# Altium footprint library Power Devices.PcbLib: 48 footprints (part 3 of 3)
Each footprint in its own frame and in the unit in brackets; x right, y up, seen from the top. Pads: shape width x height; smd on the part's side, far side on the other; paste and mask are expansions set on the pad; w line width, h text height; cw(c..) or ccw(c..) is an arc to the next point about the centre after c.
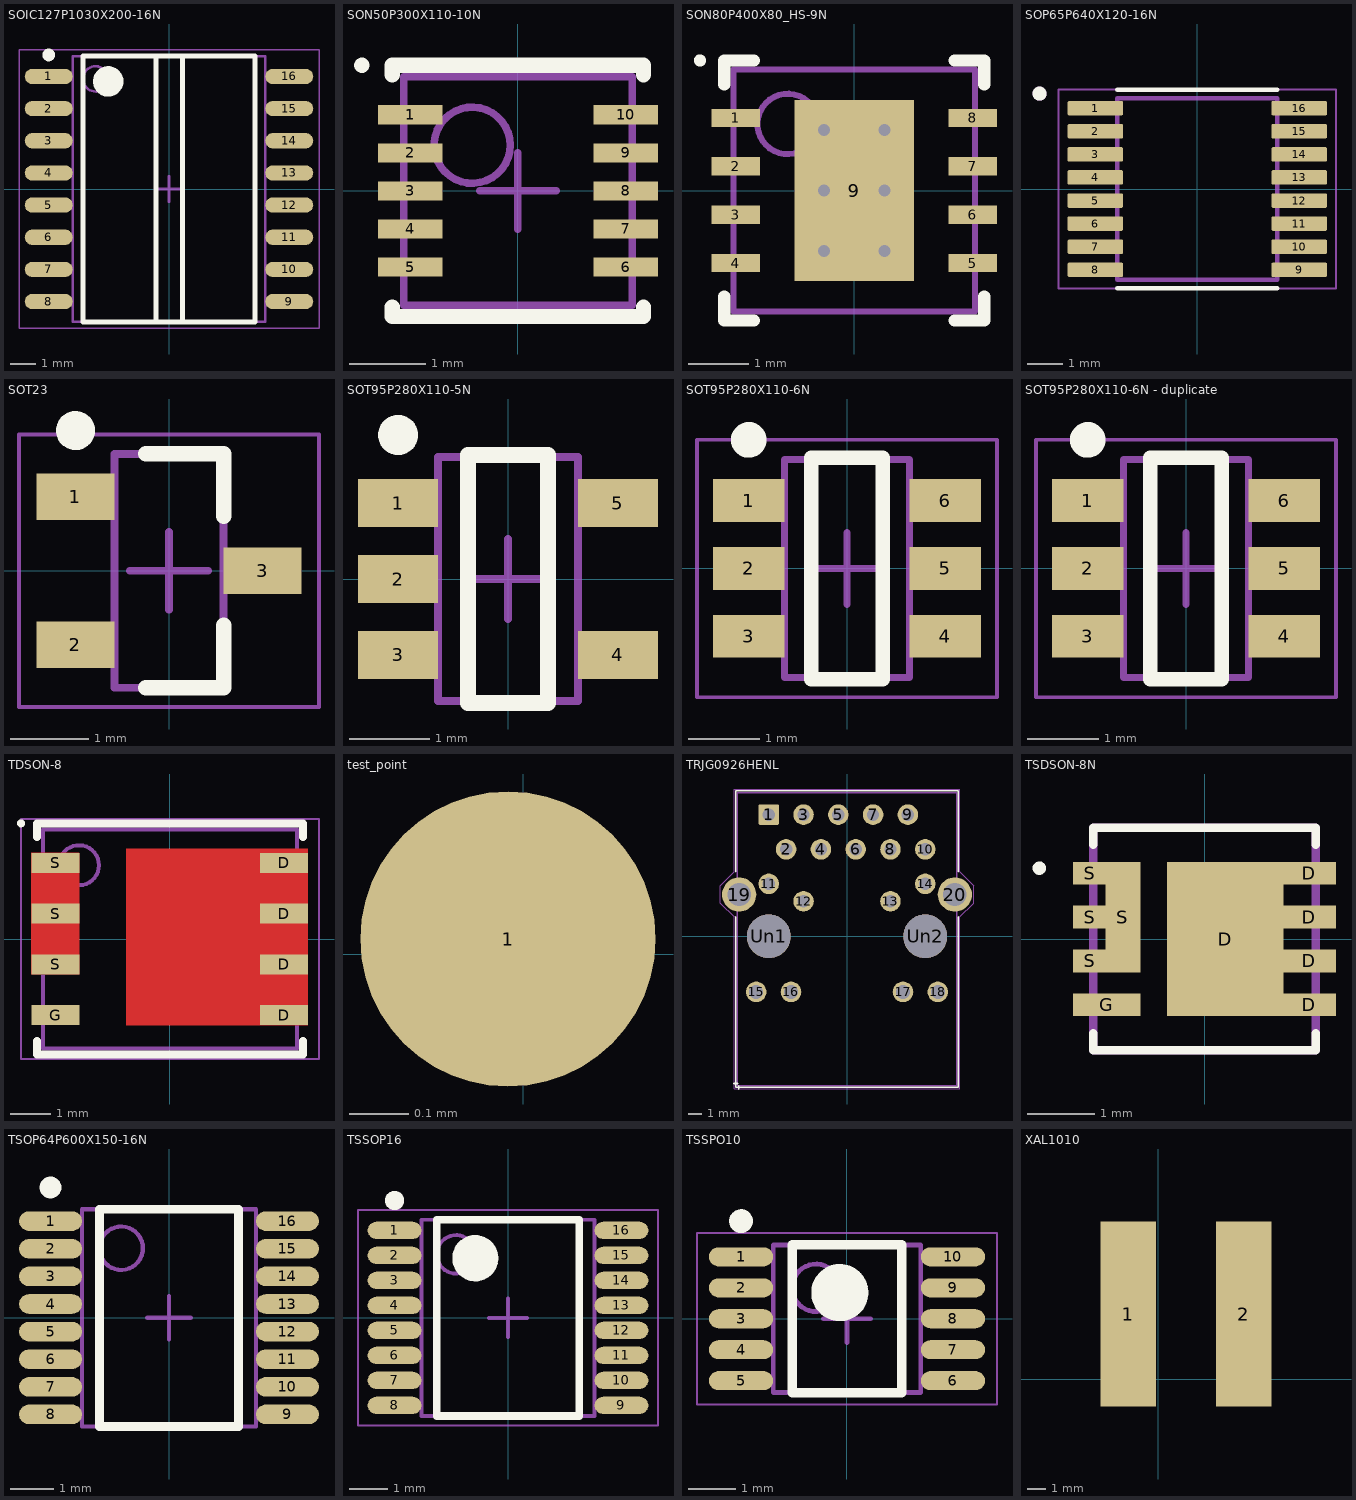
[diagram p2: the footprints below, top view; thin cyan lines are the x and y axes]

## SOIC127P1030X200-16N [mm] "SOIC, 16-Leads, Body 10.30x7.50mm, Pitch 1.27mm, IPC Medium Density"
height 2
pads (16):
  oval 1.9x0.6 smd: 1(-4.75,4.445) 2(-4.75,3.175) 3(-4.75,1.905) 4(-4.75,0.635) 5(-4.75,-0.635) 6(-4.75,-1.905) 7(-4.75,-3.175) 8(-4.75,-4.445) 9(4.75,-4.445) 10(4.75,-3.175) 11(4.75,-1.905) 12(4.75,-0.635) 13(4.75,0.635) 14(4.75,1.905) 15(4.75,3.175) 16(4.75,4.445)
Top Overlay:
  circle w0.6: c-2.4,4.25 r0.3
  circle w0.25: c-4.75,5.295 r0.125
  lines w0.2: -0.813,5.25 -0.508,5.25 -0.508,-5.258 ; 0.432,5.25 0.533,5.25 0.533,-5.25 ; -3.4,-5.25 3.4,-5.25 3.4,5.25 -3.4,5.25 -3.4,-5.25
Mechanical 13:
  circle w0.1: c-2.9,4.35 r0.5
  lines w0.1: -3.8,-5.25 3.8,-5.25 3.8,5.25 -3.8,5.25 -3.8,-5.25
Mechanical 15:
  lines w0.05: -5.925,-5.5 5.925,-5.5 5.925,5.5 -5.925,5.5 -5.925,-5.5
  lines w0.1: -0.5,0 0.5,0 ; 0,-0.5 0,0.5
3D body "SOIC127P1030X200-16N.step": height 2, standoff 0, extent -5.15,-5.25 5.15,5.25

## SON50P300X110-10N [mm] "SON, 10-Leads, Body 3.00x3.00mm, Pitch 0.50mm, IPC Medium Density"
height 1.1
pads (10):
  rect 0.85x0.25 smd: 1(-1.415,1) 2(-1.415,0.5) 3(-1.415,0) 4(-1.415,-0.5) 5(-1.415,-1) 6(1.415,-1) 7(1.415,-0.5) 8(1.415,0) 9(1.415,0.5) 10(1.415,1)
Top Overlay:
  circle w0.1: c-2.05,1.65 r0.05
  lines w0.2: -1.65,-1.525 -1.65,-1.65 1.65,-1.65 1.65,-1.525 ; -1.65,1.525 -1.65,1.65 1.65,1.65 1.65,1.525
Mechanical 13:
  circle w0.1: c-0.6,0.6 r0.5
  lines w0.1: -1.5,-1.5 1.5,-1.5 1.5,1.5 -1.5,1.5 -1.5,-1.5
Mechanical 15:
  lines w0.1: -0.5,0 0.5,0 ; 0,-0.5 0,0.5
3D body "SON50P300X110-10N.step": height 1.1, standoff 0.1, extent -1.5,-1.5 1.5,1.5

## SON80P400X80_HS-9N [mm] "SON, 8-Leads, Body 4.00x4.00mm, Pitch 0.80mm, Thermal Pad 3.00x1.98mm, IPC Medium Density"
height 0.8
pads (9):
  rect 0.8x0.3 smd: 1(-1.96,1.2) 2(-1.96,0.4) 3(-1.96,-0.4) 4(-1.96,-1.2) 5(1.96,-1.2) 6(1.96,-0.4) 7(1.96,0.4) 8(1.96,1.2)
  rect 1.98x3 smd: 9(0,0)
via 0.5,-1 diameter 0.5 hole 0.2
via -0.5,-1 diameter 0.5 hole 0.2
via 0.5,0 diameter 0.5 hole 0.2
via -0.5,0 diameter 0.5 hole 0.2
via 0.5,1 diameter 0.5 hole 0.2
via -0.5,1 diameter 0.5 hole 0.2
Top Overlay:
  circle w0.1: c-2.55,2.15 r0.05
  lines w0.2: -2.15,-1.75 -2.15,-2.15 -1.66,-2.15 ; -2.15,1.75 -2.15,2.15 -1.66,2.15 ; 1.66,-2.15 2.15,-2.15 2.15,-1.75 ; 1.66,2.15 2.15,2.15 2.15,1.75
Mechanical 13:
  circle w0.1: c-1.1,1.1 r0.5
  lines w0.1: -2,-2 2,-2 2,2 -2,2 -2,-2
Mechanical 15:
  lines w0.1: -0.5,0 0.5,0 ; 0,-0.5 0,0.5
3D body "SON80P400X80_HS-9N.step": height 0.8, standoff 0, extent -2,-2 2,2

## SOP65P640X120-16N [mm]
pads (16):
  rrect25% 1.57x0.41 smd: 1(-2.87,2.275) 2(-2.87,1.625) 3(-2.87,0.975) 4(-2.87,0.325) 5(-2.87,-0.325) 6(-2.87,-0.975) 7(-2.87,-1.625) 8(-2.87,-2.275) 9(2.87,-2.275) 10(2.87,-1.625) 11(2.87,-0.975) 12(2.87,-0.325) 13(2.87,0.325) 14(2.87,0.975) 15(2.87,1.625) 16(2.87,2.275)
Top Overlay:
  circle w0.2: c-4.44,2.685 r0.1
  lines w0.127: -2.25,-2.8 2.25,-2.8 ; -2.25,2.8 2.25,2.8
Mechanical 13:
  circle w0.2: c-4.44,2.685 r0.1
  lines w0.127: -2.25,-2.55 -2.25,2.55 2.25,2.55 2.25,-2.55 -2.25,-2.55
Mechanical 15:
  lines w0.05: -3.905,-2.8 -3.905,2.8 3.905,2.8 3.905,-2.8 -3.905,-2.8
3D body "step_temp.STEP": height 0.6, standoff -0.6, extent -2.5,-3.2 2.5,3.2

## SOT23 [mm] "SOT23, 3-Leads, Body 2.90x2.45mm, Pitch 0.95mm, IPC Medium Density"
height 1.1
pads (3):
  rect 1x0.6 smd: 1(-1.2,0.95) 2(-1.2,-0.95) 3(1.2,0)
Top Overlay:
  circle w0.25: c-1.2,1.8 r0.125
  lines w0.2: -0.3,-1.5 0.7,-1.5 0.7,-0.7 ; -0.3,1.5 0.7,1.5 0.7,0.7
Mechanical 13:
  lines w0.1: -0.7,-1.5 -0.7,1.5 0.7,1.5 0.7,-1.5 -0.7,-1.5
Mechanical 15:
  lines w0.05: -1.925,-1.75 -1.925,1.75 1.925,1.75 1.925,-1.75 -1.925,-1.75
  lines w0.1: -0.5,0 0.5,0 ; 0,-0.5 0,0.5
3D body: height 1.1, standoff 0.05, extent -0.7,-1.5 0.7,1.5

## SOT95P280X110-5N [mm] "SOT23, 5-Leads, Body 2.90x2.80mm, Pitch 0.95mm, IPC Medium Density"
height 1.1
pads (5):
  rect 1x0.6 smd: 1(-1.375,0.95) 2(-1.375,0) 3(-1.375,-0.95) 4(1.375,-0.95) 5(1.375,0.95)
Top Overlay:
  circle w0.25: c-1.375,1.8 r0.125
  lines w0.2: -0.5,-1.55 0.5,-1.55 0.5,1.55 -0.5,1.55 -0.5,-1.55
Mechanical 13:
  lines w0.1: -0.875,-1.525 -0.875,1.525 0.875,1.525 0.875,-1.525 -0.875,-1.525
Mechanical 15:
  lines w0.1: -0.5,0 0.5,0 ; 0,-0.5 0,0.5
3D body "SOT95P280X110-5N.step": height 1.1, standoff 0, extent -1.5,-1.525 1.5,1.525

## SOT95P280X110-6N [mm] "SOT23, 6-Leads, Body 2.90x2.80mm, Pitch 0.95mm, IPC Medium Density"
height 1.1
pads (6):
  rect 1x0.6 smd: 1(-1.375,0.95) 2(-1.375,0) 3(-1.375,-0.95) 4(1.375,-0.95) 5(1.375,0) 6(1.375,0.95)
Top Overlay:
  circle w0.25: c-1.375,1.8 r0.125
  lines w0.2: -0.5,-1.55 -0.5,1.55 0.5,1.55 0.5,-1.55 -0.5,-1.55
Mechanical 13:
  lines w0.1: -0.875,-1.525 0.875,-1.525 0.875,1.525 -0.875,1.525 -0.875,-1.525
Mechanical 15:
  lines w0.05: -2.1,-1.8 2.1,-1.8 2.1,1.8 -2.1,1.8 -2.1,-1.8
  lines w0.1: -0.5,0 0.5,0 ; 0,-0.5 0,0.5
3D body "SOT95P280X110-6N.step": height 1.1, standoff 0, extent -1.5,-1.525 1.5,1.525

## SOT95P280X110-6N - duplicate [mm] "SOT23, 6-Leads, Body 2.90x2.80mm, Pitch 0.95mm, IPC Medium Density"
height 1.1
pads (6):
  rect 1x0.6 smd: 1(-1.375,0.95) 2(-1.375,0) 3(-1.375,-0.95) 4(1.375,-0.95) 5(1.375,0) 6(1.375,0.95)
Top Overlay:
  circle w0.25: c-1.375,1.8 r0.125
  lines w0.2: -0.5,-1.55 0.5,-1.55 0.5,1.55 -0.5,1.55 -0.5,-1.55
Mechanical 13:
  lines w0.1: -0.875,-1.525 -0.875,1.525 0.875,1.525 0.875,-1.525 -0.875,-1.525
Mechanical 15:
  lines w0.05: -2.1,-1.8 -2.1,1.8 2.1,1.8 2.1,-1.8 -2.1,-1.8
  lines w0.1: -0.5,0 0.5,0 ; 0,-0.5 0,0.5
3D body: height 1.1, standoff 0.05, extent -0.875,-1.525 0.875,1.525

## TDSON-8 [mm] "SON, 8-Leads, Body 5.32x6.15mm, Pitch 1.27mm, IPC Medium Density"
height 0.9
pads (8):
  rect 1.2x0.5 smd: D(2.86,-1.905) D(2.86,-0.635) D(2.86,0.635) D(2.86,1.905) G(-2.86,-1.905) S(-2.86,-0.635) S(-2.86,0.635) S(-2.86,1.905)
Top Layer:
  rectangle: -3.48,-0.889 -2.261,2.159
  rectangle: -1.092,-2.159 3.458,2.261
Top Overlay:
  circle w0.1: c-3.725,2.895 r0.05
  lines w0.2: -3.325,-2.555 -3.325,-2.895 3.325,-2.895 3.325,-2.555 ; -3.325,2.555 -3.325,2.895 3.325,2.895 3.325,2.555
Top Solder:
  rectangle: -1.168,-2.261 3.454,2.337
Mechanical 13:
  circle w0.1: c-2.275,1.845 r0.5
  lines w0.1: -3.175,-2.745 3.175,-2.745 3.175,2.745 -3.175,2.745 -3.175,-2.745
Mechanical 15:
  lines w0.05: -3.73,-3 3.73,-3 3.73,3 -3.73,3 -3.73,-3
  lines w0.1: -0.5,0 0.5,0 ; 0,-0.5 0,0.5
3D body "SON127P620X90-8N.step": height 0.9, standoff 0.1, extent -3.175,-2.745 3.175,2.745

## test_point [mm]
pads (1):
  round 0.5 smd: 1(-0.025,0.025)

## TRJG0926HENL [mm]
pads (22):
  rrect17% 1.5x1.5 hole 0.9 paste-1.5: 1(-5.715,8.89)
  round 1.5 hole 0.9 paste-1.5: 2(-4.445,6.35) 3(-3.175,8.89) 4(-1.905,6.35) 5(-0.635,8.89) 6(0.635,6.35) 7(1.905,8.89) 8(3.175,6.35) 9(4.445,8.89) 10(5.715,6.35) 11(-5.715,3.83) 12(-3.175,2.56) 13(3.175,2.56) 14(5.715,3.83)
  round 1.5 hole 1.02 paste-1.5: 15(-6.63,-4.06) 16(-4.09,-4.06) 17(4.09,-4.06) 18(6.63,-4.06)
  round 2.5 hole 1.7 paste-2.5: 19(-7.875,3.05) 20(7.875,3.05)
  round 3.2 hole 3.2 paste-3.2: Un1(-5.715,0) Un2(5.715,0)
Top Overlay:
  lines w0.12: -8.25,-10.75 -8,-10.75 ; -8.12,1.43 -8.12,-11.02 8.12,-11.02 8.12,1.43 ; -8.12,4.71 -8.12,10.62 8.12,10.62 8.12,4.71 ; -7.9,-11.15 -7.9,-10.9
Mechanical 4:
  lines w0.05: -8.25,10.75 8.25,10.75 8.25,4.71 9.25,3.71 9.25,2.43 8.25,1.43 8.25,-11.15 -8.25,-11.15 -8.25,1.43 -9.25,2.43 -9.25,3.71 -8.25,4.71 -8.25,10.76
Mechanical 6:
  lines w0.1: -8,0 -8,10.5 8,10.5 8,-10.9 -8,-10.9 -8,5.37
  text "${REFERENCE}" at -1.762,-0.389 h1

## TSDSON-8N [mm]
pads (10):
  rect 1.73x2.29 smd: D(0.305,0)
  rect 0.8x0.34 smd: D(1.55,-0.975) D(1.55,-0.325) D(1.55,0.325) D(1.55,0.975)
  rect 1x0.34 smd: G(-1.45,-0.975)
  rect 0.5x0.34 smd: S(-1.7,-0.325) S(-1.7,0.325) S(-1.7,0.975)
  rect 0.52x1.64 smd: S(-1.21,0.325)
Top Overlay:
  circle w0.1: c-2.45,1.05 r0.05
  lines w0.127: -1.65,-1.4 -1.65,-1.65 1.65,-1.65 1.65,-1.4 ; -1.65,1.4 -1.65,1.65 1.65,1.65 1.65,1.4
Mechanical 13:
  lines w0.127: -1.65,-1.65 -1.65,1.65 ; -1.65,-1.65 1.65,-1.65 ; -1.65,-1.65 -1.65,1.65 ; -1.65,-1.65 1.65,-1.65 ; -1.65,1.65 1.65,1.65 ; -1.65,1.65 1.65,1.65 ; 1.65,-1.65 1.65,1.65 ; 1.65,-1.65 1.65,1.65
3D body "SON65P320X110-8N.step": height 1.1, standoff 0.1, extent -1.65,-1.649 1.65,1.651

## TSOP64P600X150-16N [mm] "TSOP, 16-Leads, Body 4.91x3.90mm, Pitch 0.64mm, IPC Medium Density"
height 1.5
pads (16):
  oval 1.45x0.45 smd: 1(-2.725,2.222) 2(-2.725,1.587) 3(-2.725,0.953) 4(-2.725,0.318) 5(-2.725,-0.318) 6(-2.725,-0.953) 7(-2.725,-1.587) 8(-2.725,-2.222) 9(2.725,-2.222) 10(2.725,-1.587) 11(2.725,-0.953) 12(2.725,-0.318) 13(2.725,0.318) 14(2.725,0.953) 15(2.725,1.587) 16(2.725,2.222)
Top Overlay:
  circle w0.25: c-2.725,2.997 r0.125
  lines w0.2: -1.6,-2.5 1.6,-2.5 1.6,2.5 -1.6,2.5 -1.6,-2.5
Mechanical 13:
  circle w0.1: c-1.1,1.6 r0.5
  lines w0.1: -2,-2.5 2,-2.5 2,2.5 -2,2.5 -2,-2.5
Mechanical 15:
  lines w0.1: -0.5,0 0.5,0 ; 0,-0.5 0,0.5
3D body "TSOP64P600X150-16N.step": height 1.5, standoff 0, extent -2.997,-2.5 2.997,2.5

## TSSOP16 [mm] "TSOP, 16-Leads, Body 5.00x4.40mm, Pitch 0.65mm, IPC Medium Density"
height 1.5
pads (16):
  oval 1.4x0.45 smd: 1(-2.95,2.275) 2(-2.95,1.625) 3(-2.95,0.975) 4(-2.95,0.325) 5(-2.95,-0.325) 6(-2.95,-0.975) 7(-2.95,-1.625) 8(-2.95,-2.275) 9(2.95,-2.275) 10(2.95,-1.625) 11(2.95,-0.975) 12(2.95,-0.325) 13(2.95,0.325) 14(2.95,0.975) 15(2.95,1.625) 16(2.95,2.275)
Top Overlay:
  circle w0.25: c-2.95,3.05 r0.125
  circle w0.6: c-0.85,1.55 r0.3
  lines w0.2: -1.85,-2.55 -1.85,2.55 1.85,2.55 1.85,-2.55 -1.85,-2.55
Mechanical 13:
  circle w0.1: c-1.35,1.65 r0.5
  lines w0.1: -2.25,-2.55 -2.25,2.55 2.25,2.55 2.25,-2.55 -2.25,-2.55
Mechanical 15:
  lines w0.05: -3.9,-2.8 -3.9,2.8 3.9,2.8 3.9,-2.8 -3.9,-2.8
  lines w0.1: -0.5,0 0.5,0 ; 0,-0.5 0,0.5
3D body "TSOP65P640X150-16N.step": height 1.5, standoff 0, extent -3.2,-2.55 3.2,2.55

## TSSPO10 [mm] "TSOP, 10-Leads, Body 3.00x3.00mm, Pitch 0.65mm, IPC Medium Density"
height 1.5
pads (10):
  oval 1.35x0.4 smd: 1(-2.225,1.3) 2(-2.225,0.65) 3(-2.225,0) 4(-2.225,-0.65) 5(-2.225,-1.3) 6(2.225,-1.3) 7(2.225,-0.65) 8(2.225,0) 9(2.225,0.65) 10(2.225,1.3)
Top Overlay:
  circle w0.25: c-2.225,2.05 r0.125
  circle w0.6: c-0.15,0.55 r0.3
  lines w0.2: -1.15,-1.55 -1.15,1.55 1.15,1.55 1.15,-1.55 -1.15,-1.55
Mechanical 13:
  circle w0.1: c-0.65,0.65 r0.5
  lines w0.1: -1.55,-1.55 -1.55,1.55 1.55,1.55 1.55,-1.55 -1.55,-1.55
Mechanical 15:
  lines w0.05: -3.15,-1.8 -3.15,1.8 3.15,1.8 3.15,-1.8 -3.15,-1.8
  lines w0.1: -0.5,0 0.5,0 ; 0,-0.5 0,0.5
3D body "TSOP65P490X150-10N.step": height 1.5, standoff 0, extent -2.45,-1.55 2.45,1.55

## XAL1010 [mm]
pads (2):
  rect 3x10 smd: 1(-1.6,3.531) 2(4.623,3.531)
3D body "Coilcraft-XAL1010.stp": height 10.43, standoff 0.43, extent -3.751,-2.042 6.749,9.263